# Altium footprint library PCBLibrary.PcbLib: 9 footprints
Each footprint in its own frame and in the unit in brackets; x right, y up, seen from the top. Pads: shape width x height; smd on the part's side, far side on the other; paste and mask are expansions set on the pad; w line width, h text height; cw(c..) or ccw(c..) is an arc to the next point about the centre after c.
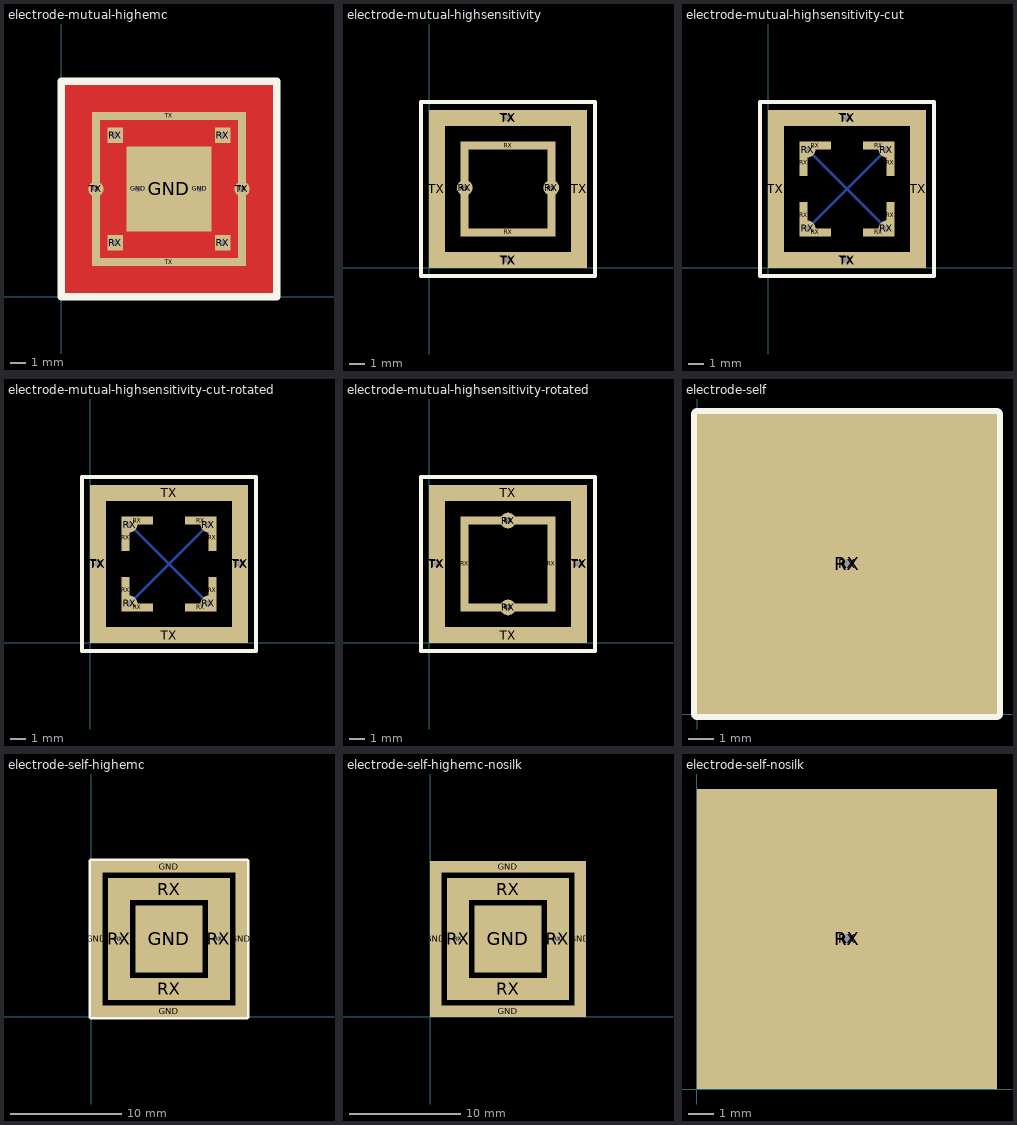
[diagram p0: the footprints below, top view; thin cyan lines are the x and y axes]

## electrode-mutual-highemc [mm] "Mutual Capacitance Sensing Electrode with High Noise Immunity"
pads (13):
  round 1 hole 0.4: GND(5,7) GND(9,7) TX(2.25,7) TX(11.75,7)
  rect 5.5x5.5 smd paste+0: GND(7,7)
  rect 1x1 hole 0.4: RX(3.5,3.5) RX(3.5,10.5) RX(10.5,3.5) RX(10.5,10.5)
  rect 0.5x10 smd paste+0: TX(2.25,7) TX(11.75,7)
  rect 10x0.5 smd paste+0: TX(7,2.25) TX(7,11.75)
Top Layer:
  pour cut-out: 0,14 0,0 14,0 14,14
  lines w0.25: 3.125,3.5 3.125,5 ; 3.125,9 3.125,10.5 ; 3.5,3.125 5,3.125 ; 3.5,10.875 5,10.875 ; 9,3.125 10.5,3.125 ; 9,10.875 10.5,10.875 ; 10.875,3.5 10.875,5 ; 10.875,9 10.875,10.5
Bottom Layer:
  pour cut-out: 0,14 0,0 14,0 14,14
  lines w0.16: 3.5,3.5 10.5,10.5 ; 3.5,10.5 10.5,3.5
Top Overlay:
  lines w0.5: 0,0 14,0 14,14 0,14 0,0
Bottom Overlay:
  lines w0.25: 0,0 0,14 14,14 14,0 0,0

## electrode-mutual-highsensitivity [mm] "Mutual Capacitance Sensing Electrode with High Sensitivity"
pads (12):
  rect 0.5x5 smd paste+0: RX(2.25,5) RX(7.75,5)
  round 1 hole 0.4: RX(2.261,5.08) RX(7.747,5.08)
  rect 6x0.5 smd paste+0: RX(5,2.25) RX(5,7.75)
  rect 1x10 smd paste+0: TX(0.5,5) TX(9.5,5)
  rect 10x1 smd paste+0: TX(5,0.5) TX(5,9.5)
  round 1 hole 0.45: TX(5,0.5) TX(5,9.5)
Top Overlay:
  lines w0.25: -0.5,-0.5 10.5,-0.5 10.5,10.5 -0.5,10.5 -0.5,-0.5

## electrode-mutual-highsensitivity-cut [mm] "Mutual Capacitance Sensing Electrode with High Sensitivity and Cut Rx Square"
pads (18):
  rect 0.5x1.667 smd paste+0: RX(2.25,3.333) RX(2.25,6.667) RX(7.75,3.333) RX(7.75,6.667)
  round 1 hole 0.4: RX(2.5,2.5) RX(2.5,7.5) RX(7.5,2.5) RX(7.5,7.5)
  rect 2x0.5 smd paste+0: RX(3,2.25) RX(3,7.75) RX(7,2.25) RX(7,7.75)
  rect 1x10 smd paste+0: TX(0.5,5) TX(9.5,5)
  rect 10x1 smd paste+0: TX(5,0.5) TX(5,9.5)
  round 1 hole 0.45: TX(5,0.5) TX(5,9.5)
Bottom Layer:
  lines w0.2: 2.5,2.5 7.5,7.5 ; 2.5,7.5 7.5,2.5
Top Overlay:
  lines w0.25: -0.5,-0.5 10.5,-0.5 10.5,10.5 -0.5,10.5 -0.5,-0.5

## electrode-mutual-highsensitivity-cut-rotated [mm] "Mutual Capacitance Sensing Electrode with High Sensitivity and Cut Rx Square (Rotated)"
pads (18):
  rect 0.5x1.667 smd paste+0: RX(2.25,3.333) RX(2.25,6.667) RX(7.75,3.333) RX(7.75,6.667)
  round 1 hole 0.4: RX(2.5,2.5) RX(2.5,7.5) RX(7.5,2.5) RX(7.5,7.5)
  rect 2x0.5 smd paste+0: RX(3,2.25) RX(3,7.75) RX(7,2.25) RX(7,7.75)
  rect 1x10 smd paste+0: TX(0.5,5) TX(9.5,5)
  round 1 hole 0.45: TX(0.5,5) TX(9.5,5)
  rect 10x1 smd paste+0: TX(5,0.5) TX(5,9.5)
Bottom Layer:
  lines w0.2: 2.5,2.5 7.5,7.5 ; 2.5,7.5 7.5,2.5
Top Overlay:
  lines w0.25: -0.5,-0.5 10.5,-0.5 10.5,10.5 -0.5,10.5 -0.5,-0.5

## electrode-mutual-highsensitivity-rotated [mm] "Mutual Capacitance Sensing Electrode with High Sensitivity (Rotated)"
pads (12):
  rect 0.5x5 smd paste+0: RX(2.25,5) RX(7.75,5)
  rect 6x0.5 smd paste+0: RX(5,2.25) RX(5,7.75)
  round 1 hole 0.45: RX(5,2.25) RX(5,7.75) TX(0.5,5) TX(9.5,5)
  rect 1x10 smd paste+0: TX(0.5,5) TX(9.5,5)
  rect 10x1 smd paste+0: TX(5,0.5) TX(5,9.5)
Top Overlay:
  lines w0.25: -0.5,-0.5 -0.5,10.5 10.5,10.5 10.5,-0.5 -0.5,-0.5

## electrode-self [mm] "Self Capacitance Sensing Electrode"
pads (2):
  rect 12x12 smd paste+0: RX(6,6)
  round 0.81 hole 0.406: RX(6,6)
Top Overlay:
  lines w0.5: 0,0 12,0 12,12 0,12 0,0
Bottom Overlay:
  lines w0.5: 0,0 0,12 12,12 12,0 0,0

## electrode-self-highemc [mm] "Self Capacitance Sensing Electrode with High EMC"
pads (12):
  rect 1x14 smd paste+0: GND(0.5,7)
  rect 14x1 smd paste+0 mask+0: GND(7,0.5) GND(7,13.5)
  rect 6x6 smd paste+0 mask+0: GND(7,7)
  round 0.81 hole 0.406: GND(7,7) RX(2.5,7) RX(11.5,7)
  rect 1x14 smd paste+0 mask+0: GND(13.5,7)
  rect 2x11 smd paste+0: RX(2.5,7) RX(11.5,7)
  rect 11x2 smd paste+0: RX(7,2.5) RX(7,11.5)
Top Overlay:
  lines w0.5: 0,0 0,14 14,14 14,0 0,0
Bottom Overlay:
  lines w0.5: 0,0 14,0 14,14 0,14 0,0

## electrode-self-highemc-nosilk [mm] "Self Capacitance Sensing Electrode with High EMC (No Silk)"
pads (12):
  rect 1x14 smd paste+0: GND(0.5,7)
  rect 14x1 smd paste+0 mask+0: GND(7,0.5) GND(7,13.5)
  rect 6x6 smd paste+0 mask+0: GND(7,7)
  round 0.81 hole 0.406: GND(7,7) RX(2.5,7) RX(11.5,7)
  rect 1x14 smd paste+0 mask+0: GND(13.5,7)
  rect 2x11 smd paste+0: RX(2.5,7) RX(11.5,7)
  rect 11x2 smd paste+0: RX(7,2.5) RX(7,11.5)

## electrode-self-nosilk [mm] "Self Capacitance Sensing Electrode"
pads (2):
  rect 12x12 smd paste+0: RX(6,6)
  round 0.81 hole 0.406: RX(6,6)